# Altium schematic symbol library M66.SchLib: 1 symbol
Pins are listed as number, name and electrical type; pins without a type are passive.

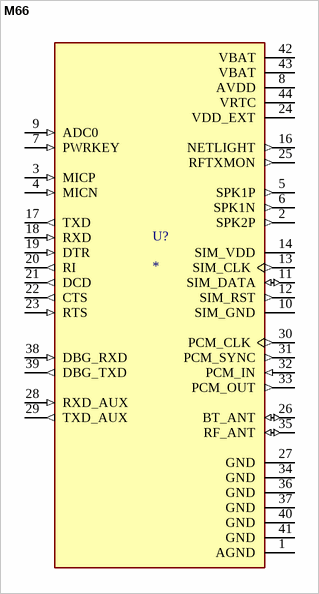
[diagram p0: symbol M66]

## M66
designator U?
M66 is an ultra-small quad-band GSM/GPRS module using LCC castellation packaging on the market. Based on the latest 2G chipset, it has the optimal performance in SMS & Data transmission and audio service even in harsh environment.; MF: Quectel; Availability: In Stock; Value: *; Price: None; Check_prices: https://www.snapeda.com/parts/M66/Quectel/view-part/?ref=eda; SnapEDA_Link: https://www.snapeda.com/parts/M66/Quectel/view-part/?ref=snap; MP: M66; Package: SMD-52 Quectel
footprint XCVR_M66
pins: 1 AGND (power), 2 SPK2P (out), 3 MICP (in), 4 MICN (in), 5 SPK1P (out), 6 SPK1N (out), 7 PWRKEY (in), 8 AVDD (power), 9 ADC0 (in), 10 SIM_GND (power), 11 SIM_DATA (io), 12 SIM_RST (out), 13 SIM_CLK (out), 14 SIM_VDD (power), 16 NETLIGHT (out), 17 TXD (out), 18 RXD (in), 19 DTR (in), 20 RI (out), 21 DCD (out), 22 CTS (out), 23 RTS (in), 24 VDD_EXT (power), 25 RFTXMON (out), 26 BT_ANT (io), 27 GND (power), 28 RXD_AUX (in), 29 TXD_AUX (out), 30 PCM_CLK (out), 31 PCM_SYNC (out), 32 PCM_IN (in), 33 PCM_OUT (out), 34 GND (power), 35 RF_ANT (io), 36 GND (power), 37 GND (power), 38 DBG_RXD (in), 39 DBG_TXD (out), 40 GND (power), 41 GND (power), 42 VBAT (power), 43 VBAT (power), 44 VRTC (power)